# EAGLE library part SN74HCT123-* (library DAC)
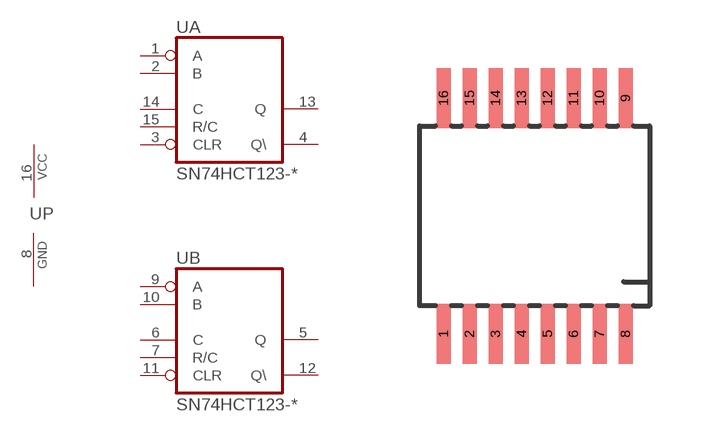
[diagram p15: symbol with the pads of TSSOP16; footprint TSSOP16]

Designator prefix U; gates P=PWR A=MONOSTABLEVIBRATOR B=MONOSTABLEVIBRATOR

## SN74HCT123-PW  [TSSOP16]
1  A:A  in
2  A:B  in
3  A:CLR  in
4  A:Q\  out
5  B:Q  out
6  B:C  in
7  B:R/C  in
8  P:GND  pwr
9  B:A  in
10  B:B  in
11  B:CLR  in
12  B:Q\  out
13  A:Q  out
14  A:C  in
15  A:R/C  in
16  P:VCC  pwr

## Footprint TSSOP16 (pad centres in mm)
smd 0.35 x 1.5: 1 -2.275,-2.95; 2 -1.625,-2.95; 3 -0.975,-2.95; 4 -0.325,-2.95; 5 0.325,-2.95; 6 0.975,-2.95; 7 1.625,-2.95; 8 2.275,-2.95; 9 2.275,2.95; 10 1.625,2.95; 11 0.975,2.95; 12 0.325,2.95; 13 -0.325,2.95; 14 -0.975,2.95; 15 -1.625,2.95; 16 -2.275,2.95